# Altium schematic symbol library ultrasonic_distance_sensors.SchLib: 2 symbols
Pins are listed as number, name and electrical type; pins without a type are passive.

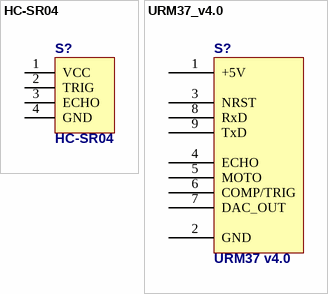
[diagram p0: symbols HC-SR04 to URM37_v4.0]

## HC-SR04
designator S?
2-200cm
footprint HC-SR04
pins: 1 VCC, 2 TRIG, 3 ECHO, 4 GND

## URM37_v4.0
designator S?, comment URM37 v4.0
DFRobot URM37 v4.0 Ultrasonic Distance Sensor
footprint URM37_v4.0 (DFRobot URM37 v4.0 Ultrasonic Distance Sensor)
pins: 1 +5V, 2 GND, 3 NRST, 4 ECHO, 5 MOTO, 6 COMP/TRIG, 7 DAC_OUT, 8 RxD, 9 TxD